# Altium schematic symbol library 74HC595BZX.SchLib: 1 symbol
Pins are listed as number, name and electrical type; pins without a type are passive.

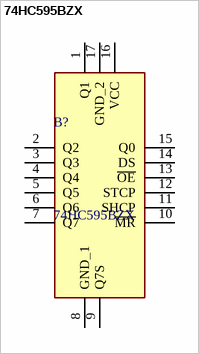
[diagram p0: symbol 74HC595BZX]

## 74HC595BZX
designator B?
74HC595; 74HCT595 - 8-bit serial-in, serial or parallel-out shift register with output latches;\n         3-state@en-us; Manufacturer_Name: Nexperia; Geometry.Height: 0.48mm; Manufacturer_Part_Number: 74HC595BZX; Mouser Part Number: 771-74HC595BZX; Mouser Price/Stock: https://www.mouser.co.uk/ProductDetail/Nexperia/74HC595BZX?qs=ljCeji4nMDlf8kJc%252BqgNqw%3D%3D; Arrow Part Number: *; Arrow Price/Stock: *; Datasheet Link: https://assets.nexperia.com/documents/data-sheet/74HC_HCT595.pdf
footprint 74HC595BZX
pins: 1 Q1, 2 Q2, 3 Q3, 4 Q4, 5 Q5, 6 Q6, 7 Q7, 8 GND_1, 9 Q7S, 10 ~{MR}, 11 SHCP, 12 STCP, 13 ~{OE}, 14 DS, 15 Q0, 16 VCC, 17 GND_2